# EAGLE library part AD5754BREZ (library AD5754BREZ)
4-channel 16-bit Serial DAC, 100ksps Source: Datasheet <https://datasheet.datasheetarchive.com/originals/distributors/Datasheets-SFU1/DSASFU10003180.pdf>
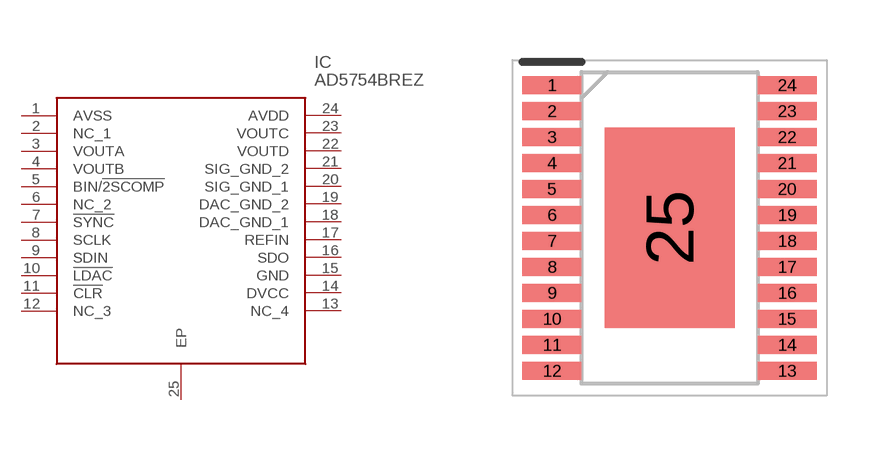
[diagram p0: symbol with the pads of SOP65P640X120-25N; footprint SOP65P640X120-25N]

Designator prefix IC

## AD5754BREZ (Arrow_Part_Number: AD5754BREZ; Arrow_Price-Stock: https://www.arrow.com/en/products/ad5754brez/analog-devices?utm_currency=USD&region=nac; Description: 4-channel 16-bit Serial DAC, 100ksps; Height: 1.2mm; Manufacturer_Name: Analog Devices; Manufacturer_Part_Number: AD5754BREZ; Mouser_Part_Number: 584-AD5754BREZ; Mouser_Price-Stock: https://www.mouser.co.uk/ProductDetail/Analog-Devices/AD5754BREZ?qs=NmRFExCfTkE9WVZYrblgWQ%3D%3D)  [SOP65P640X120-25N]
1  AVSS
2  NC_1
3  VOUTA
4  VOUTB
5  BIN/!2SCOMP
6  NC_2
7  !SYNC
8  SCLK
9  SDIN
10  !LDAC
11  !CLR
12  NC_3
13  NC_4
14  DVCC
15  GND
16  SDO
17  REFIN
18  DAC_GND_1
19  DAC_GND_2
20  SIG_GND_1
21  SIG_GND_2
22  VOUTD
23  VOUTC
24  AVDD
25  EP

## Footprint SOP65P640X120-25N (pad centres in mm)
AD5754BREZ
smd 1.475 x 0.45: 1 -2.938,3.575; 2 -2.938,2.925; 3 -2.938,2.275; 4 -2.938,1.625; 5 -2.938,0.975; 6 -2.938,0.325; 7 -2.938,-0.325; 8 -2.938,-0.975; 9 -2.938,-1.625; 10 -2.938,-2.275; 11 -2.938,-2.925; 12 -2.938,-3.575; 13 2.938,-3.575; 14 2.938,-2.925; 15 2.938,-2.275; 16 2.938,-1.625; 17 2.938,-0.975; 18 2.938,-0.325; 19 2.938,0.325; 20 2.938,0.975; 21 2.938,1.625; 22 2.938,2.275; 23 2.938,2.925; 24 2.938,3.575
smd 3.25 x 5.02: 25 0,0